# Altium footprint library GOSTVoltageReference.PcbLib: 1 footprints
Each footprint in its own frame and in the unit in brackets; x right, y up, seen from the top. Pads: shape width x height; smd on the part's side, far side on the other; paste and mask are expansions set on the pad; w line width, h text height; cw(c..) or ccw(c..) is an arc to the next point about the centre after c.
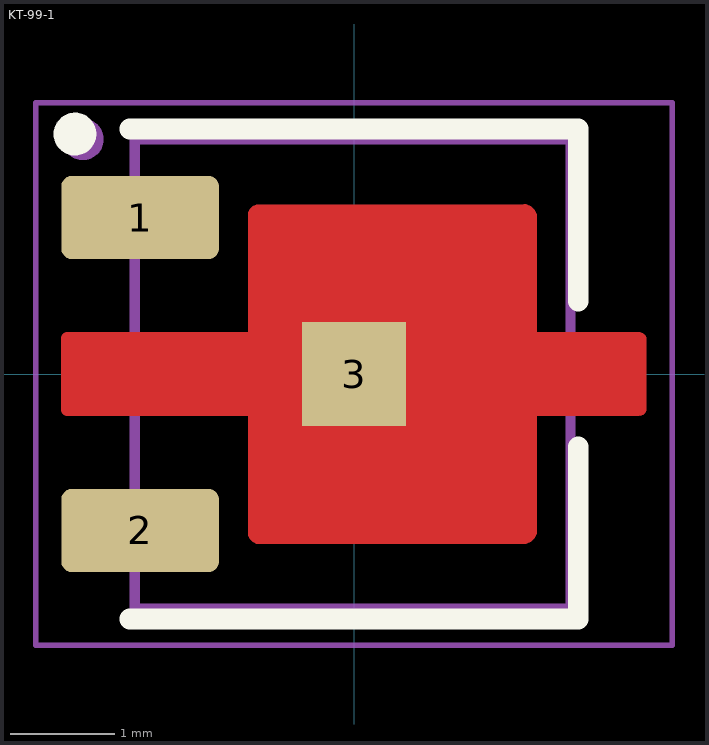
[diagram p0: the footprint, top view; thin cyan lines are the x and y axes]

## KT-99-1 [mm] "SOT89, 3-Leads, Body 4,54x4,19mm, Pitch 1,50mm, Lead Span 4,7mm, IPC Medium Density"
height 1.7
pads (3):
  rrect25% 1.51x0.8 smd: 1(-2.05,1.5) 2(-2.05,-1.5)
  rect 1x1 smd mask+0: 3(0,0)
Top Layer:
  region: -0.915,1.625 1.625,1.625 1.65,1.625 1.696,1.606 1.731,1.571 1.75,1.525 1.75,1.5 1.75,0.4 2.731,0.4 2.745,0.4 2.77,0.39 2.79,0.37 2.8,0.345 2.8,0.331 2.8,-0.336 2.8,-0.349 2.79,-0.373 2.772,-0.391 2.749,-0.4 2.736,-0.4 1.75,-0.4 1.75,-1.5 1.75,-1.525 1.731,-1.571 1.696,-1.606 1.65,-1.625 1.625,-1.625 -0.915,-1.625 -0.935,-1.625 -0.972,-1.61 -1.001,-1.581 -1.016,-1.544 -1.016,-1.524 -1.016,-0.4 -2.751,-0.4 -2.761,-0.4 -2.781,-0.392 -2.796,-0.377 -2.805,-0.357 -2.805,-0.346 -2.805,0.346 -2.805,0.357 -2.796,0.377 -2.781,0.392 -2.761,0.401 -2.75,0.401 -1.016,0.401 -1.016,1.524 -1.016,1.544 -1.001,1.581 -0.972,1.609 -0.935,1.625
Top Overlay:
  circle w0.21: c-2.675,2.3 r0.1
  lines w0.2: -2.15,-2.35 2.15,-2.35 2.15,-0.7 ; -2.15,2.35 2.15,2.35 2.15,0.7
Mechanical 6:
  text ".Comment" at -1.397,-2.413 h1.2
Mechanical 9:
  text ".Designator" at -2.413,1.905 h1.5
Mechanical 11:
  circle w0.2: c-2.6,2.25 r0.1
  lines w0.1: -2.1,-1.725 -2.65,-1.725 -2.65,-1.275 -2.1,-1.275 ; -2.1,-0.225 -2.65,-0.225 -2.65,0.225 -2.1,0.225 ; -2.1,1.275 -2.65,1.275 -2.65,1.725 -2.1,1.725 ; 2.1,-0.225 2.65,-0.225 2.65,0.225 2.1,0.225 ; -2.1,-2.25 2.075,-2.25 2.075,2.25 -2.1,2.25 -2.1,-2.25
Mechanical 15:
  lines w0.05: -3.05,-2.6 -3.05,2.6 3.05,2.6 3.05,-2.6 -3.05,-2.6
  lines w0.1: -0.5,0 0.5,0 ; 0,-0.5 0,0.5
3D body "室-99-1.STEP": height 1.66, standoff -0.04, extent -2.625,-2.3 2.625,2.3